# EAGLE library part 70553-08 (library con-molex-c-grid)
C-Grid SL
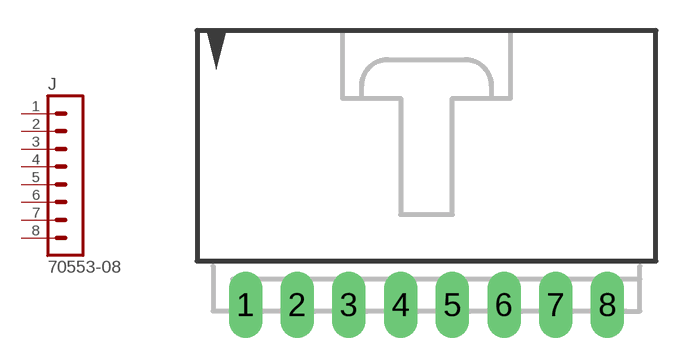
[diagram p22: symbol with the pads of 70553-08; footprint 70553-08]

Designator prefix J

## 70553-08  [70553-08]
1  1  pas
2  2  pas
3  3  pas
4  4  pas
5  5  pas
6  6  pas
7  7  pas
8  8  pas

## Footprint 70553-08 (pad centres in mm)
C-Grid SL right angle
drill 1.092 long: 1 -8.89,-7.62; 2 -6.35,-7.62; 3 -3.81,-7.62; 4 -1.27,-7.62; 5 1.27,-7.62; 6 3.81,-7.62; 7 6.35,-7.62; 8 8.89,-7.62